# Altium schematic symbol library VCNL4010.SchLib: 1 symbol
Pins are listed as number, name and electrical type; pins without a type are passive.

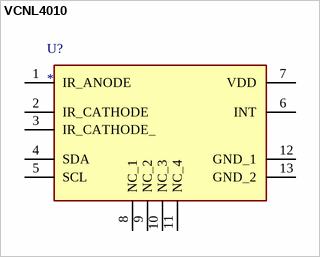
[diagram p0: symbol VCNL4010]

## VCNL4010
designator U?
Datasheet: https://www.vishay.com/docs/83462/vcnl4010.pdf
footprint VCNL4010
pins: 1 IR_ANODE, 2 IR_CATHODE, 3 IR_CATHODE_, 4 SDA, 5 SCL, 6 INT, 7 VDD, 8 NC_1, 9 NC_2, 10 NC_3, 11 NC_4, 12 GND_1, 13 GND_2